# Altium footprint library PLD12.PcbLib: 1 footprints
Each footprint in its own frame and in the unit in brackets; x right, y up, seen from the top. Pads: shape width x height; smd on the part's side, far side on the other; paste and mask are expansions set on the pad; w line width, h text height; cw(c..) or ccw(c..) is an arc to the next point about the centre after c.
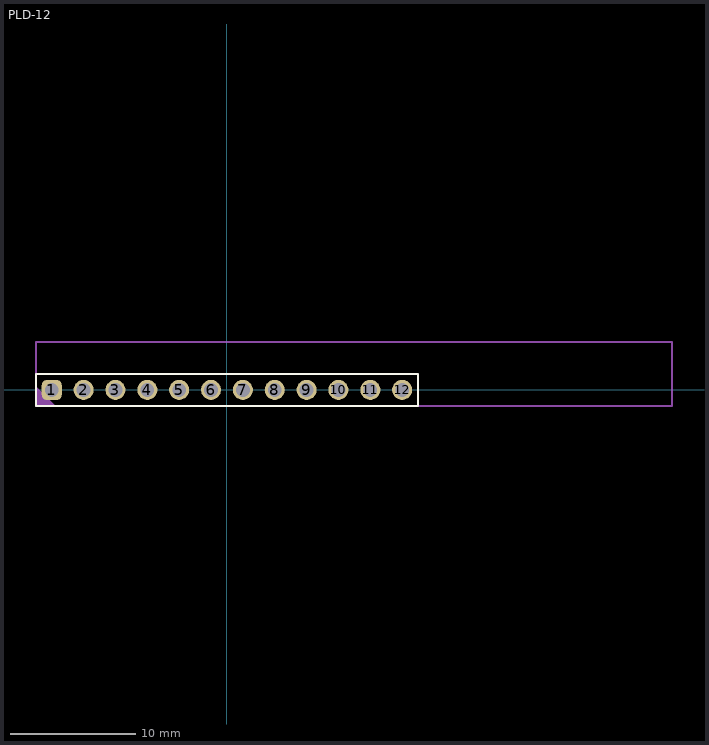
[diagram p0: the footprint, top view; thin cyan lines are the x and y axes]

## PLD-12 [mm]
height 8
pads (12):
  rrect50% 1.6x1.6 hole 1.1: 1(-13.97,0)
  round 1.6 hole 1.1: 2(-11.43,0) 3(-8.89,0) 4(-6.35,0) 5(-3.81,0) 6(-1.27,0) 7(1.27,0) 8(3.81,0) 9(6.35,0) 10(8.89,0) 11(11.43,0) 12(13.97,0)
Top Overlay:
  lines w0.15: -15.24,-1.27 -15.24,1.27 15.24,1.27 15.24,-1.27 -15.24,-1.27
Mechanical 29:
  region: -15.24,-1.23 -15.24,0.294 -13.716,-1.23
  lines w0.15: -15.24,-1.27 35.5,-1.27 35.5,3.81 -15.24,3.81 -15.24,-1.27
3D body "PLS-1.STEP": height 8.5, standoff -3, extent -15.24,-1.27 -12.7,1.27
3D body "PLS-1.STEP": height 8.5, standoff -3, extent -7.62,-1.27 -5.08,1.27
3D body "PLS-1.STEP": height 8.5, standoff -3, extent -10.16,-1.27 -7.62,1.27
3D body "PLS-1.STEP": height 8.5, standoff -3, extent -2.54,-1.27 0,1.27
3D body "PLS-1.STEP": height 8.5, standoff -3, extent -5.08,-1.27 -2.54,1.27
3D body "PLS-1.STEP": height 8.5, standoff -3, extent 2.54,-1.27 5.08,1.27
3D body "PLS-1.STEP": height 8.5, standoff -3, extent 0,-1.27 2.54,1.27
3D body "PLS-1.STEP": height 8.5, standoff -3, extent 7.62,-1.27 10.16,1.27
3D body "PLS-1.STEP": height 8.5, standoff -3, extent 5.08,-1.27 7.62,1.27
3D body "PLS-1.STEP": height 8.5, standoff -3, extent 12.7,-1.27 15.24,1.27
3D body "PLS-1.STEP": height 8.5, standoff -3, extent 10.16,-1.27 12.7,1.27
3D body "PLS-1.STEP": height 8.5, standoff -3, extent -12.7,-1.27 -10.16,1.27